# EAGLE library part MOTOR_CONNECTOR (library slothbot_parts)
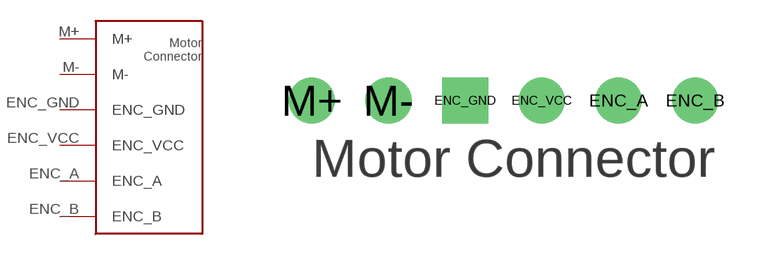
[diagram p2: symbol with the pads of MOTOR_CONNECTOR; footprint MOTOR_CONNECTOR]

Designator prefix -

## MOTOR_CONNECTOR  [MOTOR_CONNECTOR]
ENC_A  ENC_A
ENC_B  ENC_B
ENC_GND  ENC_GND
ENC_VCC  ENC_VCC
M+  M+
M-  M-

## Footprint MOTOR_CONNECTOR (pad centres in mm)
drill 1.02: ENC_A 10.16,0; ENC_B 12.7,0; ENC_VCC 7.62,0; M+ 0,0; M- 2.54,0
drill 1.02 square: ENC_GND 5.08,0